# Altium schematic symbol library Mediatek.SchLib: 3 symbols
Pins are listed as number, name and electrical type; pins without a type are passive.

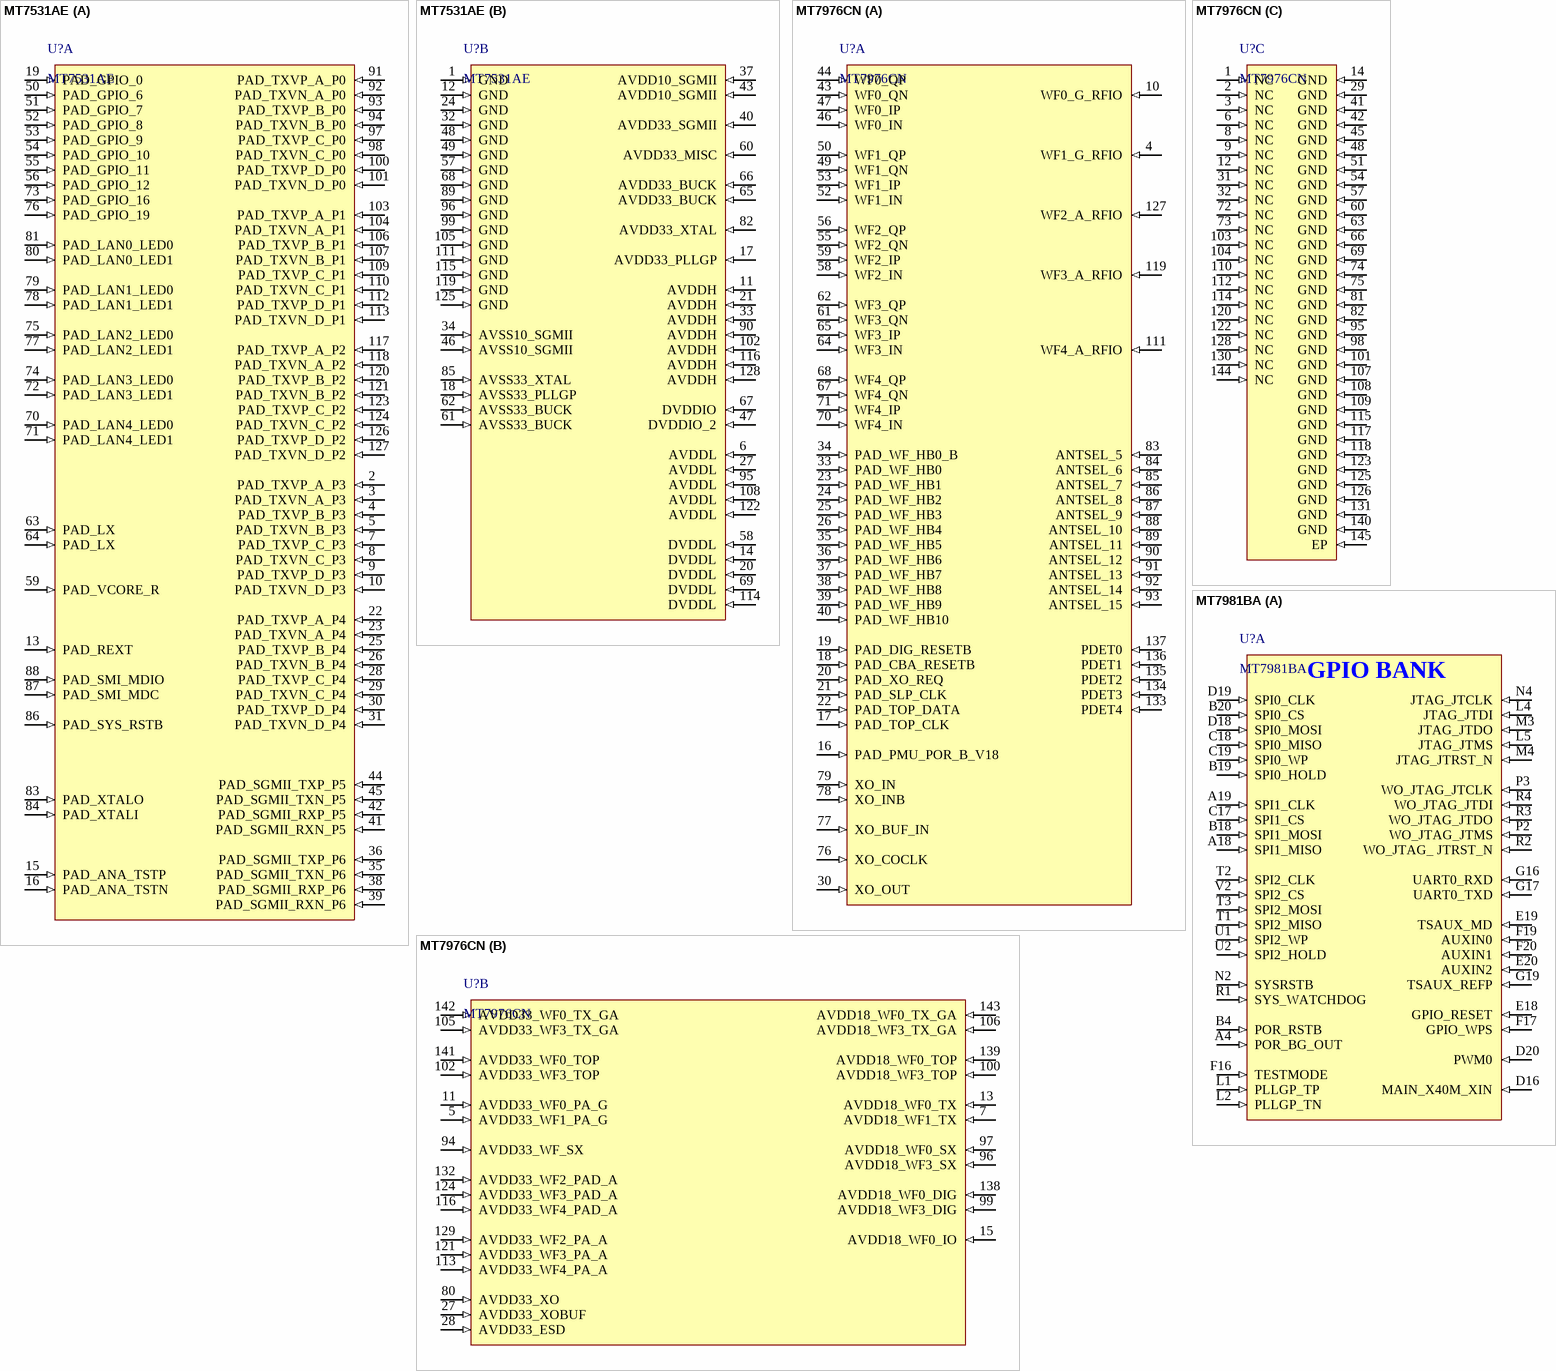
[diagram p0: symbols MT7531AE to MT7981BA]

## MT7531AE
designator U?
Ethernet switch with high performance / and non-blocking forwarding. It includes a 7-port Gigabit Ethernet MAC and a / 5-port Gigabit Ethernet PHY for home entertainment, home automation and so / on. It also integrated 2-port high speed SGMII interface for 2.5Gbps backbone / or the external 2.5Gbps PHY.; LCSC: C45354771; ComponentLink1Description: LCSC Link; ComponentLink1URL: https://www.lcsc.com/product-detail/C45354771.html
footprint TSQFP40P1600X1600X160-128N (TSQFP, 128-Leads, Body 14,00x14,00mm, Pitch 0,40mm, IPC Medium Density)
part A pins: 2 PAD_TXVP_A_P3 (in), 3 PAD_TXVN_A_P3 (in), 4 PAD_TXVP_B_P3 (in), 5 PAD_TXVN_B_P3 (in), 7 PAD_TXVP_C_P3 (in), 8 PAD_TXVN_C_P3 (in), 9 PAD_TXVP_D_P3 (in), 10 PAD_TXVN_D_P3 (in), 13 PAD_REXT (in), 15 PAD_ANA_TSTP (in), 16 PAD_ANA_TSTN (in), 19 PAD_GPIO_0 (in), 22 PAD_TXVP_A_P4 (in), 23 PAD_TXVN_A_P4 (in), 25 PAD_TXVP_B_P4 (in), 26 PAD_TXVN_B_P4 (in), 28 PAD_TXVP_C_P4 (in), 29 PAD_TXVN_C_P4 (in), 30 PAD_TXVP_D_P4 (in), 31 PAD_TXVN_D_P4 (in), 35 PAD_SGMII_TXN_P6 (in), 36 PAD_SGMII_TXP_P6 (in), 38 PAD_SGMII_RXP_P6 (in), 39 PAD_SGMII_RXN_P6 (in), 41 PAD_SGMII_RXN_P5 (in), 42 PAD_SGMII_RXP_P5 (in), 44 PAD_SGMII_TXP_P5 (in), 45 PAD_SGMII_TXN_P5 (in), 50 PAD_GPIO_6 (in), 51 PAD_GPIO_7 (in), 52 PAD_GPIO_8 (in), 53 PAD_GPIO_9 (in), 54 PAD_GPIO_10 (in), 55 PAD_GPIO_11 (in), 56 PAD_GPIO_12 (in), 59 PAD_VCORE_R (in), 63 PAD_LX (in), 64 PAD_LX (in), 70 PAD_LAN4_LED0 (in), 71 PAD_LAN4_LED1 (in), 72 PAD_LAN3_LED1 (in), 73 PAD_GPIO_16 (in), 74 PAD_LAN3_LED0 (in), 75 PAD_LAN2_LED0 (in), 76 PAD_GPIO_19 (in), 77 PAD_LAN2_LED1 (in), 78 PAD_LAN1_LED1 (in), 79 PAD_LAN1_LED0 (in), 80 PAD_LAN0_LED1 (in), 81 PAD_LAN0_LED0 (in), 83 PAD_XTALO (in), 84 PAD_XTALI (in), 86 PAD_SYS_RSTB (in), 87 PAD_SMI_MDC (in), 88 PAD_SMI_MDIO (in), 91 PAD_TXVP_A_P0 (in), 92 PAD_TXVN_A_P0 (in), 93 PAD_TXVP_B_P0 (in), 94 PAD_TXVN_B_P0 (in), 97 PAD_TXVP_C_P0 (in), 98 PAD_TXVN_C_P0 (in), 100 PAD_TXVP_D_P0 (in), 101 PAD_TXVN_D_P0 (in), 103 PAD_TXVP_A_P1 (in), 104 PAD_TXVN_A_P1 (in), 106 PAD_TXVP_B_P1 (in), 107 PAD_TXVN_B_P1 (in), 109 PAD_TXVP_C_P1 (in), 110 PAD_TXVN_C_P1 (in), 112 PAD_TXVP_D_P1 (in), 113 PAD_TXVN_D_P1 (in), 117 PAD_TXVP_A_P2 (in), 118 PAD_TXVN_A_P2 (in), 120 PAD_TXVP_B_P2 (in), 121 PAD_TXVN_B_P2 (in), 123 PAD_TXVP_C_P2 (in), 124 PAD_TXVN_C_P2 (in), 126 PAD_TXVP_D_P2 (in), 127 PAD_TXVN_D_P2 (in)
part B pins: 1 GND (in), 6 AVDDL (in), 11 AVDDH (in), 12 GND (in), 14 DVDDL (in), 17 AVDD33_PLLGP (in), 18 AVSS33_PLLGP (in), 20 DVDDL (in), 21 AVDDH (in), 24 GND (in), 27 AVDDL (in), 32 GND (in), 33 AVDDH (in), 34 AVSS10_SGMII (in), 37 AVDD10_SGMII (in), 40 AVDD33_SGMII (in), 43 AVDD10_SGMII (in), 46 AVSS10_SGMII (in), 47 DVDDIO_2 (in), 48 GND (in), 49 GND (in), 57 GND (in), 58 DVDDL (in), 60 AVDD33_MISC (in), 61 AVSS33_BUCK (in), 62 AVSS33_BUCK (in), 65 AVDD33_BUCK (in), 66 AVDD33_BUCK (in), 67 DVDDIO (in), 68 GND (in), 69 DVDDL (in), 82 AVDD33_XTAL (in), 85 AVSS33_XTAL (in), 89 GND (in), 90 AVDDH (in), 95 AVDDL (in), 96 GND (in), 99 GND (in), 102 AVDDH (in), 105 GND (in), 108 AVDDL (in), 111 GND (in), 114 DVDDL (in), 115 GND (in), 116 AVDDH (in), 119 GND (in), 122 AVDDL (in), 125 GND (in), 128 AVDDH (in)

## MT7976CN
designator U?
IEEE WiFi 6 MIMO RF chip which contains 2.4 GHz WI-Fi transceiver front-ends and 5 GHz Wi- Fi transceiver front-ends; LCSC: C45358990
footprint DRQFN50P1250X1000X90_HS-144N
part A pins: 4 WF1_G_RFIO (in), 10 WF0_G_RFIO (in), 16 PAD_PMU_POR_B_V18 (in), 17 PAD_TOP_CLK (in), 18 PAD_CBA_RESETB (in), 19 PAD_DIG_RESETB (in), 20 PAD_XO_REQ (in), 21 PAD_SLP_CLK (in), 22 PAD_TOP_DATA (in), 23 PAD_WF_HB1 (in), 24 PAD_WF_HB2 (in), 25 PAD_WF_HB3 (in), 26 PAD_WF_HB4 (in), 30 XO_OUT (in), 33 PAD_WF_HB0 (in), 34 PAD_WF_HB0_B (in), 35 PAD_WF_HB5 (in), 36 PAD_WF_HB6 (in), 37 PAD_WF_HB7 (in), 38 PAD_WF_HB8 (in), 39 PAD_WF_HB9 (in), 40 PAD_WF_HB10 (in), 43 WF0_QN (in), 44 WF0_QP (in), 46 WF0_IN (in), 47 WF0_IP (in), 49 WF1_QN (in), 50 WF1_QP (in), 52 WF1_IN (in), 53 WF1_IP (in), 55 WF2_QN (in), 56 WF2_QP (in), 58 WF2_IN (in), 59 WF2_IP (in), 61 WF3_QN (in), 62 WF3_QP (in), 64 WF3_IN (in), 65 WF3_IP (in), 67 WF4_QN (in), 68 WF4_QP (in), 70 WF4_IN (in), 71 WF4_IP (in), 76 XO_COCLK (in), 77 XO_BUF_IN (in), 78 XO_INB (in), 79 XO_IN (in), 83 ANTSEL_5 (in), 84 ANTSEL_6 (in), 85 ANTSEL_7 (in), 86 ANTSEL_8 (in), 87 ANTSEL_9 (in), 88 ANTSEL_10 (in), 89 ANTSEL_11 (in), 90 ANTSEL_12 (in), 91 ANTSEL_13 (in), 92 ANTSEL_14 (in), 93 ANTSEL_15 (in), 111 WF4_A_RFIO (in), 119 WF3_A_RFIO (in), 127 WF2_A_RFIO (in), 133 PDET4 (in), 134 PDET3 (in), 135 PDET2 (in), 136 PDET1 (in), 137 PDET0 (in)
part B pins: 5 AVDD33_WF1_PA_G (in), 7 AVDD18_WF1_TX (in), 11 AVDD33_WF0_PA_G (in), 13 AVDD18_WF0_TX (in), 15 AVDD18_WF0_IO (in), 27 AVDD33_XOBUF (in), 28 AVDD33_ESD (in), 80 AVDD33_XO (in), 94 AVDD33_WF_SX (in), 96 AVDD18_WF3_SX (in), 97 AVDD18_WF0_SX (in), 99 AVDD18_WF3_DIG (in), 100 AVDD18_WF3_TOP (in), 102 AVDD33_WF3_TOP (in), 105 AVDD33_WF3_TX_GA (in), 106 AVDD18_WF3_TX_GA (in), 113 AVDD33_WF4_PA_A (in), 116 AVDD33_WF4_PAD_A (in), 121 AVDD33_WF3_PA_A (in), 124 AVDD33_WF3_PAD_A (in), 129 AVDD33_WF2_PA_A (in), 132 AVDD33_WF2_PAD_A (in), 138 AVDD18_WF0_DIG (in), 139 AVDD18_WF0_TOP (in), 141 AVDD33_WF0_TOP (in), 142 AVDD33_WF0_TX_GA (in), 143 AVDD18_WF0_TX_GA (in)
part C pins: 1 NC (in), 2 NC (in), 3 NC (in), 6 NC (in), 8 NC (in), 9 NC (in), 12 NC (in), 14 GND (in), 29 GND (in), 31 NC (in), 32 NC (in), 41 GND (in), 42 GND (in), 45 GND (in), 48 GND (in), 51 GND (in), 54 GND (in), 57 GND (in), 60 GND (in), 63 GND (in), 66 GND (in), 69 GND (in), 72 NC (in), 73 NC (in), 74 GND (in), 75 GND (in), 81 GND (in), 82 GND (in), 95 GND (in), 98 GND (in), 101 GND (in), 103 NC (in), 104 NC (in), 107 GND (in), 108 GND (in), 109 GND (in), 110 NC (in), 112 NC (in), 114 NC (in), 115 GND (in), 117 GND (in), 118 GND (in), 120 NC (in), 122 NC (in), 123 GND (in), 125 GND (in), 126 GND (in), 128 NC (in), 130 NC (in), 131 GND (in), 140 GND (in), 144 NC (in), 145 EP (in)

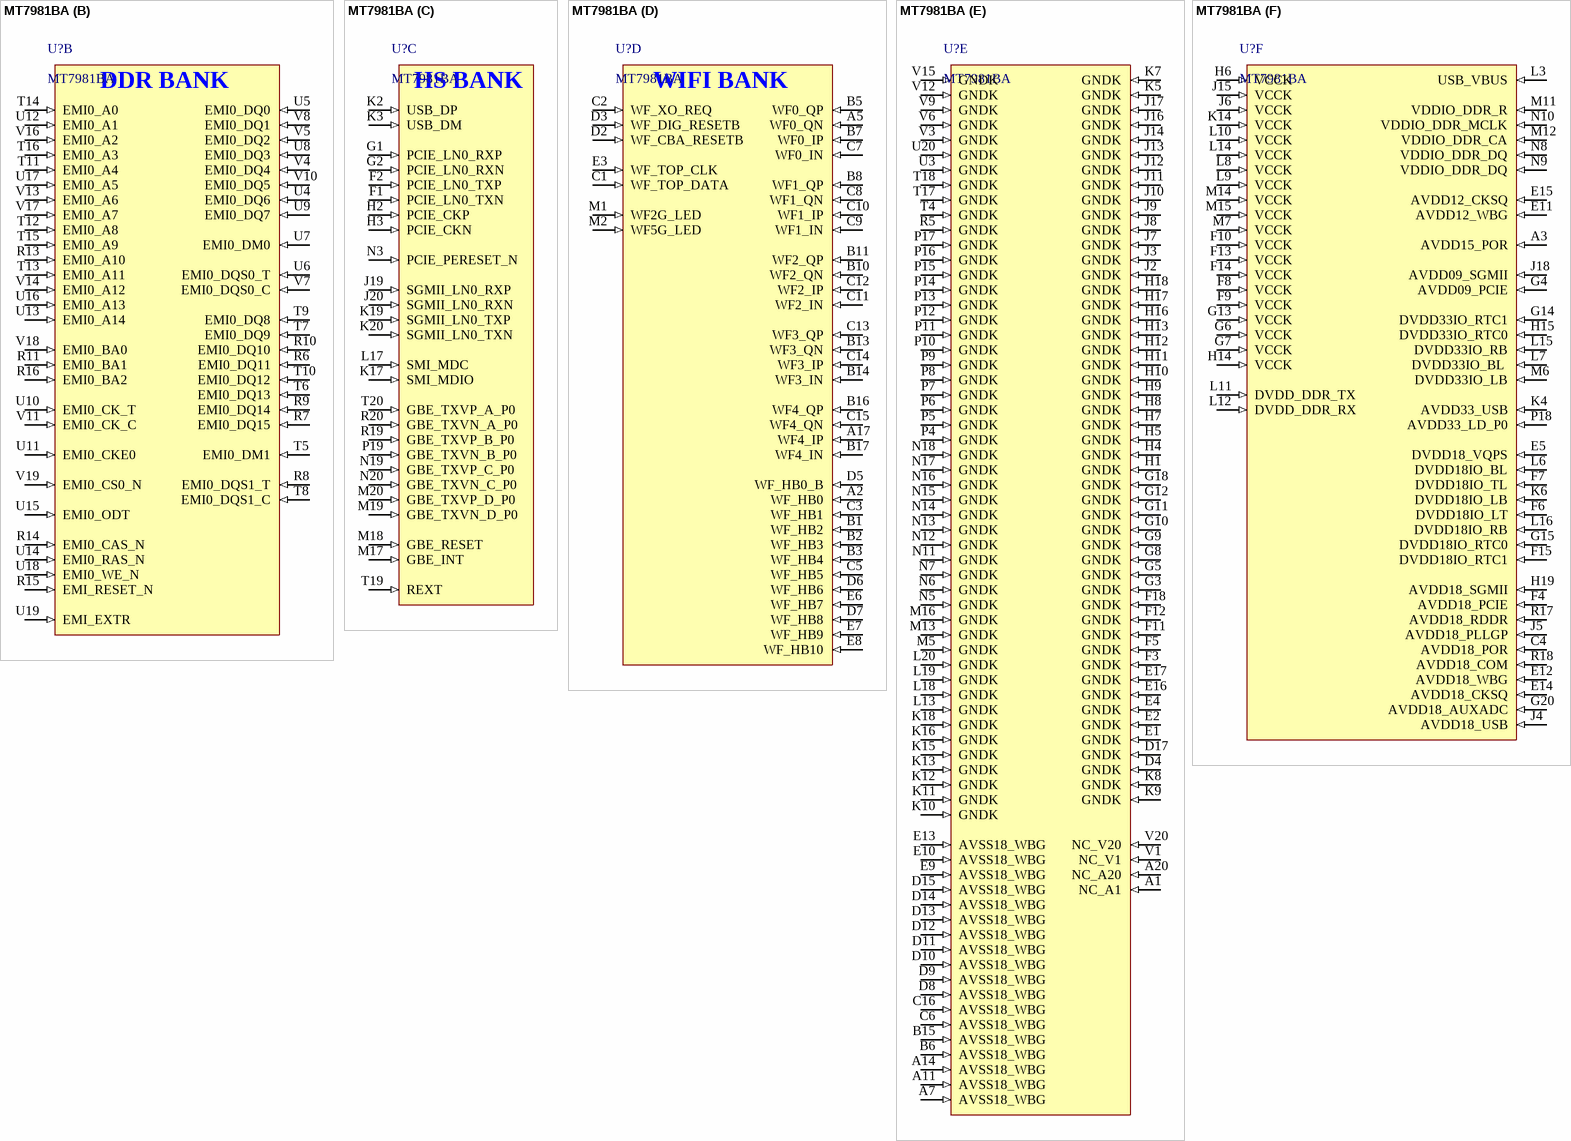
[diagram p1: symbol MT7981BA]

## MT7981BA
designator U?
Wireles Network Router SoC , Dual Core Cortex ARM A53; Manufacturer: MEDIATEK; Manufacturer Part Number: MT7981BA; ComponentLink1Description: Datasheet; ComponentLink1URL: https://one.openwrt.org/hardware/MT7981B_Wi-Fi6_Platform_Datasheet_Open_V1.0.pdf
footprint BGA338C65P20X18_1300X1170X140 (BGA, 338-Leads, Body 13,00x11,70mmx1,40mm, Pitch 0,65mm)
part A pins: A4 POR_BG_OUT (in), A18 SPI1_MISO (in), A19 SPI1_CLK (in), B4 POR_RSTB (in), B18 SPI1_MOSI (in), B19 SPI0_HOLD (in), B20 SPI0_CS (in), C17 SPI1_CS (in), C18 SPI0_MISO (in), C19 SPI0_WP (in), D16 MAIN_X40M_XIN (in), D18 SPI0_MOSI (in), D19 SPI0_CLK (in), D20 PWM0 (in), E18 GPIO_RESET (in), E19 TSAUX_MD (in), E20 AUXIN2 (in), F16 TESTMODE (in), F17 GPIO_WPS (in), F19 AUXIN0 (in), F20 AUXIN1 (in), G16 UART0_RXD (in), G17 UART0_TXD (in), G19 TSAUX_REFP (in), L1 PLLGP_TP (in), L2 PLLGP_TN (in), L4 JTAG_JTDI (in), L5 JTAG_JTMS (in), M3 JTAG_JTDO (in), M4 JTAG_JTRST_N (in), N2 SYSRSTB (in), N4 JTAG_JTCLK (in), P2 WO_JTAG_JTMS (in), P3 WO_JTAG_JTCLK (in), R1 SYS_WATCHDOG (in), R2 WO_JTAG_ JTRST_N (in), R3 WO_JTAG_JTDO (in), R4 WO_JTAG_JTDI (in), T1 SPI2_MISO (in), T2 SPI2_CLK (in), T3 SPI2_MOSI (in), U1 SPI2_WP (in), U2 SPI2_HOLD (in), V2 SPI2_CS (in)
part B pins: R6 EMI0_DQ11 (in), R7 EMI0_DQ15 (in), R8 EMI0_DQS1_T (in), R9 EMI0_DQ14 (in), R10 EMI0_DQ10 (in), R11 EMI0_BA1 (in), R13 EMI0_A10 (in), R14 EMI0_CAS_N (in), R15 EMI_RESET_N (in), R16 EMI0_BA2 (in), T5 EMI0_DM1 (in), T6 EMI0_DQ13 (in), T7 EMI0_DQ9 (in), T8 EMI0_DQS1_C (in), T9 EMI0_DQ8 (in), T10 EMI0_DQ12 (in), T11 EMI0_A4 (in), T12 EMI0_A8 (in), T13 EMI0_A11 (in), T14 EMI0_A0 (in), T15 EMI0_A9 (in), T16 EMI0_A3 (in), U4 EMI0_DQ6 (in), U5 EMI0_DQ0 (in), U6 EMI0_DQS0_T (in), U7 EMI0_DM0 (in), U8 EMI0_DQ3 (in), U9 EMI0_DQ7 (in), U10 EMI0_CK_T (in), U11 EMI0_CKE0 (in), U12 EMI0_A1 (in), U13 EMI0_A14 (in), U14 EMI0_RAS_N (in), U15 EMI0_ODT (in), U16 EMI0_A13 (in), U17 EMI0_A5 (in), U18 EMI0_WE_N (in), U19 EMI_EXTR (in), V4 EMI0_DQ4 (in), V5 EMI0_DQ2 (in), V7 EMI0_DQS0_C (in), V8 EMI0_DQ1 (in), V10 EMI0_DQ5 (in), V11 EMI0_CK_C (in), V13 EMI0_A6 (in), V14 EMI0_A12 (in), V16 EMI0_A2 (in), V17 EMI0_A7 (in), V18 EMI0_BA0 (in), V19 EMI0_CS0_N (in)
part C pins: F1 PCIE_LN0_TXN (in), F2 PCIE_LN0_TXP (in), G1 PCIE_LN0_RXP (in), G2 PCIE_LN0_RXN (in), H2 PCIE_CKP (in), H3 PCIE_CKN (in), J19 SGMII_LN0_RXP (in), J20 SGMII_LN0_RXN (in), K2 USB_DP (in), K3 USB_DM (in), K17 SMI_MDIO (in), K19 SGMII_LN0_TXP (in), K20 SGMII_LN0_TXN (in), L17 SMI_MDC (in), M17 GBE_INT (in), M18 GBE_RESET (in), M19 GBE_TXVN_D_P0 (in), M20 GBE_TXVP_D_P0 (in), N3 PCIE_PERESET_N (in), N19 GBE_TXVP_C_P0 (in), N20 GBE_TXVN_C_P0 (in), P19 GBE_TXVN_B_P0 (in), R19 GBE_TXVP_B_P0 (in), R20 GBE_TXVN_A_P0 (in), T19 REXT (in), T20 GBE_TXVP_A_P0 (in)
part D pins: A2 WF_HB0 (in), A5 WF0_QN (in), A17 WF4_IP (in), B1 WF_HB2 (in), B2 WF_HB3 (in), B3 WF_HB4 (in), B5 WF0_QP (in), B7 WF0_IP (in), B8 WF1_QP (in), B10 WF2_QN (in), B11 WF2_QP (in), B13 WF3_QN (in), B14 WF3_IN (in), B16 WF4_QP (in), B17 WF4_IN (in), C1 WF_TOP_DATA (in), C2 WF_XO_REQ (in), C3 WF_HB1 (in), C5 WF_HB5 (in), C7 WF0_IN (in), C8 WF1_QN (in), C9 WF1_IN (in), C10 WF1_IP (in), C11 WF2_IN (in), C12 WF2_IP (in), C13 WF3_QP (in), C14 WF3_IP (in), C15 WF4_QN (in), D2 WF_CBA_RESETB (in), D3 WF_DIG_RESETB (in), D5 WF_HB0_B (in), D6 WF_HB6 (in), D7 WF_HB8 (in), E3 WF_TOP_CLK (in), E6 WF_HB7 (in), E7 WF_HB9 (in), E8 WF_HB10 (in), M1 WF2G_LED (in), M2 WF5G_LED (in)
part E pins: A1 NC_A1 (in), A7 AVSS18_WBG (in), A11 AVSS18_WBG (in), A14 AVSS18_WBG (in), A20 NC_A20 (in), B6 AVSS18_WBG (in), B15 AVSS18_WBG (in), C6 AVSS18_WBG (in), C16 AVSS18_WBG (in), D4 GNDK (in), D8 AVSS18_WBG (in), D9 AVSS18_WBG (in), D10 AVSS18_WBG (in), D11 AVSS18_WBG (in), D12 AVSS18_WBG (in), D13 AVSS18_WBG (in), D14 AVSS18_WBG (in), D15 AVSS18_WBG (in), D17 GNDK (in), E1 GNDK (in), E2 GNDK (in), E4 GNDK (in), E9 AVSS18_WBG (in), E10 AVSS18_WBG (in), E13 AVSS18_WBG (in), E16 GNDK (in), E17 GNDK (in), F3 GNDK (in), F5 GNDK (in), F11 GNDK (in), F12 GNDK (in), F18 GNDK (in), G3 GNDK (in), G5 GNDK (in), G8 GNDK (in), G9 GNDK (in), G10 GNDK (in), G11 GNDK (in), G12 GNDK (in), G18 GNDK (in), H1 GNDK (in), H4 GNDK (in), H5 GNDK (in), H7 GNDK (in), H8 GNDK (in), H9 GNDK (in), H10 GNDK (in), H11 GNDK (in), H12 GNDK (in), H13 GNDK (in), H16 GNDK (in), H17 GNDK (in), H18 GNDK (in), J2 GNDK (in), J3 GNDK (in), J7 GNDK (in), J8 GNDK (in), J9 GNDK (in), J10 GNDK (in), J11 GNDK (in), J12 GNDK (in), J13 GNDK (in), J14 GNDK (in), J16 GNDK (in), J17 GNDK (in), K5 GNDK (in), K7 GNDK (in), K8 GNDK (in), K9 GNDK (in), K10 GNDK (in), K11 GNDK (in), K12 GNDK (in), K13 GNDK (in), K15 GNDK (in), K16 GNDK (in), K18 GNDK (in), L13 GNDK (in), L18 GNDK (in), L19 GNDK (in), L20 GNDK (in), M5 GNDK (in), M13 GNDK (in), M16 GNDK (in), N5 GNDK (in), N6 GNDK (in), N7 GNDK (in), N11 GNDK (in), N12 GNDK (in), N13 GNDK (in), N14 GNDK (in), N15 GNDK (in), N16 GNDK (in), N17 GNDK (in), N18 GNDK (in), P4 GNDK (in), P5 GNDK (in), P6 GNDK (in), P7 GNDK (in), P8 GNDK (in), P9 GNDK (in), P10 GNDK (in), P11 GNDK (in), P12 GNDK (in), P13 GNDK (in), P14 GNDK (in), P15 GNDK (in), P16 GNDK (in), P17 GNDK (in), R5 GNDK (in), T4 GNDK (in), T17 GNDK (in), T18 GNDK (in), U3 GNDK (in), U20 GNDK (in), V1 NC_V1 (in), V3 GNDK (in), V6 GNDK (in), V9 GNDK (in), V12 GNDK (in), V15 GNDK (in), V20 NC_V20 (in)
part F pins: A3 AVDD15_POR (in), C4 AVDD18_POR (in), E5 DVDD18_VQPS (in), E11 AVDD12_WBG (in), E12 AVDD18_WBG (in), E14 AVDD18_CKSQ (in), E15 AVDD12_CKSQ (in), F4 AVDD18_PCIE (in), F6 DVDD18IO_LT (in), F7 DVDD18IO_TL (in), F8 VCCK (in), F9 VCCK (in), F10 VCCK (in), F13 VCCK (in), F14 VCCK (in), F15 DVDD18IO_RTC1 (in), G4 AVDD09_PCIE (in), G6 VCCK (in), G7 VCCK (in), G13 VCCK (in), G14 DVDD33IO_RTC1 (in), G15 DVDD18IO_RTC0 (in), G20 AVDD18_AUXADC (in), H6 VCCK (in), H14 VCCK (in), H15 DVDD33IO_RTC0 (in), H19 AVDD18_SGMII (in), J4 AVDD18_USB (in), J5 AVDD18_PLLGP (in), J6 VCCK (in), J15 VCCK (in), J18 AVDD09_SGMII (in), K4 AVDD33_USB (in), K6 DVDD18IO_LB (in), K14 VCCK (in), L3 USB_VBUS (in), L6 DVDD18IO_BL (in), L7 DVDD33IO_BL  (in), L8 VCCK (in), L9 VCCK (in), L10 VCCK (in), L11 DVDD_DDR_TX (in), L12 DVDD_DDR_RX (in), L14 VCCK (in), L15 DVDD33IO_RB (in), L16 DVDD18IO_RB (in), M6 DVDD33IO_LB (in), M7 VCCK (in), M11 VDDIO_DDR_R (in), M12 VDDIO_DDR_CA (in), M14 VCCK (in), M15 VCCK (in), N8 VDDIO_DDR_DQ (in), N9 VDDIO_DDR_DQ (in), N10 VDDIO_DDR_MCLK (in), P18 AVDD33_LD_P0 (in), R17 AVDD18_RDDR (in), R18 AVDD18_COM (in)
part A text: GPIO BANK
part B text: DDR BANK
part C text: HS BANK
part D text: WIFI BANK